# EAGLE library part PA_PMOD_I2C_SIL (library PatternAgents_Interface)
PatternAgents Peripheral Module I2C (Extended) Pattern Source LBR : http://www.patternagents.com Github : https://github.com/patternagents Source License : http://www.digilentinc.com/Pmods/licensing.cfm Source Data : http://www.digilentinc.com/Pmods/Digilent-Pmod_%20Interface_Specification.pdf The name "Pmod™" is the trademark of Digilent Inc. PA Pattern License : http://creativecommons.org/licenses/by-sa/4.0/ (Creative Commons 4.0) THIS SOFTWARE IS PROVIDED BY THE CONTRIBUTORS "AS IS" AND WITHOUT ANY EXPRESS OR IMPLIED WARRANTIES, INCLUDING, BUT NOT LIMITED TO, THE IMPLIED WARRANTIES OF MERCHANTABILITY AND FITNESS FOR A PARTICULAR PURPOSE ARE DISCLAIMED. IN NO EVENT SHALL THE COPYRIGHT OWNER OR CONTRIBUTORS BE LIABLE FOR ANY DIRECT, INDIRECT, INCIDENTAL, SPECIAL, EXEMPLARY, OR CONSEQUENTIAL DAMAGES (INCLUDING, BUT NOT LIMITED TO, PROCUREMENT OF SUBSTITUTE GOODS OR SERVICES; LOSS OF USE, DATA, OR PROFITS; OR BUSINESS INTERRUPTION) HOWEVER CAUSED AND ON ANY THEORY OF LIABILITY, WHETHER IN CONTRACT, STRICT LIABILITY, OR TORT (INCLUDING NEGLIGENCE OR OTHERWISE) ARISING IN ANY WAY OUT OF THE USE OF THIS SOFTWARE, EVEN IF ADVISED OF THE POSSIBILITY OF SUCH DAMAGE.
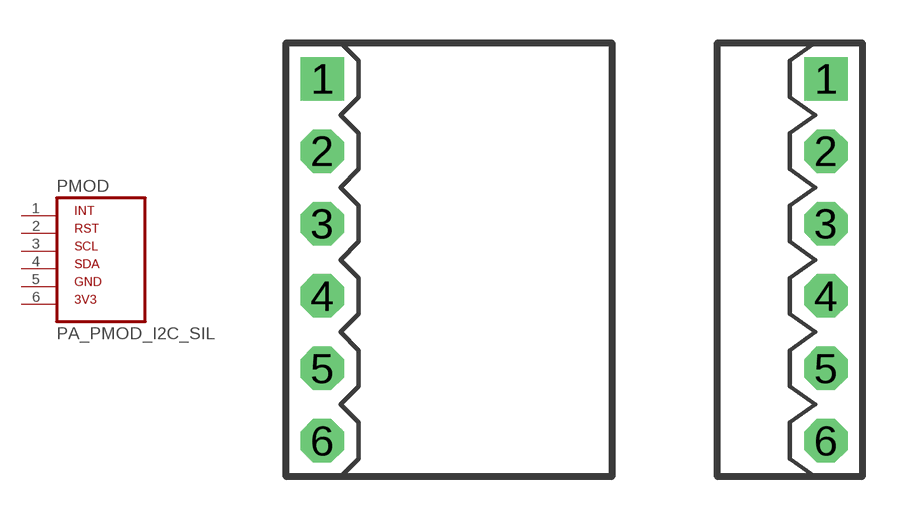
[diagram p5: symbol with the pads of PA_PMOD_SIL_FEMALE; footprints PA_PMOD_SIL_FEMALE, PA_PMOD_SIL_MALE]

Designator prefix PMOD

## PA_PMOD_I2C_SIL_HOST  [PA_PMOD_SIL_FEMALE]
1  1  pas
2  2  pas
3  3  pas
4  4  pas
5  5  pas
6  6  pas

## PA_PMOD_I2C_SIL_PERIPHERAL  [PA_PMOD_SIL_MALE]
Pads as for PA_PMOD_SIL_FEMALE

## Footprint PA_PMOD_SIL_FEMALE (pad centres in mm)
PatternAgents Peripheral Module Single Row/Female Pattern Source LBR : http://www.patternagents.com Github : https://github.com/patternagents Source License : http://www.digilentinc.com/Pmods/licensing.cfm Source Data : http://www.digilentinc.com/Pmods/Digilent-Pmod_%20Interface_Specification.pdf The name "Pmod™" is the trademark of Digilent Inc. PA Pattern License : http://creativecommons.org/licenses/by-sa/4.0/ (Creative Commons 4.0) THIS SOFTWARE IS PROVIDED BY THE CONTRIBUTORS "AS IS" AND WITHOUT ANY EXPRESS OR IMPLIED WARRANTIES, INCLUDING, BUT NOT LIMITED TO, THE IMPLIED WARRANTIES OF MERCHANTABILITY AND FITNESS FOR A PARTICULAR PURPOSE ARE DISCLAIMED. IN NO EVENT SHALL THE COPYRIGHT OWNER OR CONTRIBUTORS BE LIABLE FOR ANY DIRECT, INDIRECT, INCIDENTAL, SPECIAL, EXEMPLARY, OR CONSEQUENTIAL DAMAGES (INCLUDING, BUT NOT LIMITED TO, PROCUREMENT OF SUBSTITUTE GOODS OR SERVICES; LOSS OF USE, DATA, OR PROFITS; OR BUSINESS INTERRUPTION) HOWEVER CAUSED AND ON ANY THEORY OF LIABILITY, WHETHER IN CONTRACT, STRICT LIABILITY, OR TORT (INCLUDING NEGLIGENCE OR OTHERWISE) ARISING IN ANY WAY OUT OF THE USE OF THIS SOFTWARE, EVEN IF ADVISED OF THE POSSIBILITY OF SUCH DAMAGE.
drill 1.016 square: 1 -1.27,6.35
drill 1.016 octagon: 2 -1.27,3.81; 3 -1.27,1.27; 4 -1.27,-1.27; 5 -1.27,-3.81; 6 -1.27,-6.35

## Footprint PA_PMOD_SIL_MALE (pad centres in mm)
PatternAgents Peripheral Module Single Row/Male Pattern Source LBR : http://www.patternagents.com Github : https://github.com/patternagents Source License : http://www.digilentinc.com/Pmods/licensing.cfm Source Data : http://www.digilentinc.com/Pmods/Digilent-Pmod_%20Interface_Specification.pdf The name "Pmod™" is the trademark of Digilent Inc. PA Pattern License : http://creativecommons.org/licenses/by-sa/4.0/ (Creative Commons 4.0) THIS SOFTWARE IS PROVIDED BY THE CONTRIBUTORS "AS IS" AND WITHOUT ANY EXPRESS OR IMPLIED WARRANTIES, INCLUDING, BUT NOT LIMITED TO, THE IMPLIED WARRANTIES OF MERCHANTABILITY AND FITNESS FOR A PARTICULAR PURPOSE ARE DISCLAIMED. IN NO EVENT SHALL THE COPYRIGHT OWNER OR CONTRIBUTORS BE LIABLE FOR ANY DIRECT, INDIRECT, INCIDENTAL, SPECIAL, EXEMPLARY, OR CONSEQUENTIAL DAMAGES (INCLUDING, BUT NOT LIMITED TO, PROCUREMENT OF SUBSTITUTE GOODS OR SERVICES; LOSS OF USE, DATA, OR PROFITS; OR BUSINESS INTERRUPTION) HOWEVER CAUSED AND ON ANY THEORY OF LIABILITY, WHETHER IN CONTRACT, STRICT LIABILITY, OR TORT (INCLUDING NEGLIGENCE OR OTHERWISE) ARISING IN ANY WAY OUT OF THE USE OF THIS SOFTWARE, EVEN IF ADVISED OF THE POSSIBILITY OF SUCH DAMAGE.
drill 1.016 square: 1 1.27,6.35
drill 1.016 octagon: 2 1.27,3.81; 3 1.27,1.27; 4 1.27,-1.27; 5 1.27,-3.81; 6 1.27,-6.35